# Altium footprint library SC70-6.PcbLib: 1 footprints
Each footprint in its own frame and in the unit in brackets; x right, y up, seen from the top. Pads: shape width x height; smd on the part's side, far side on the other; paste and mask are expansions set on the pad; w line width, h text height; cw(c..) or ccw(c..) is an arc to the next point about the centre after c.
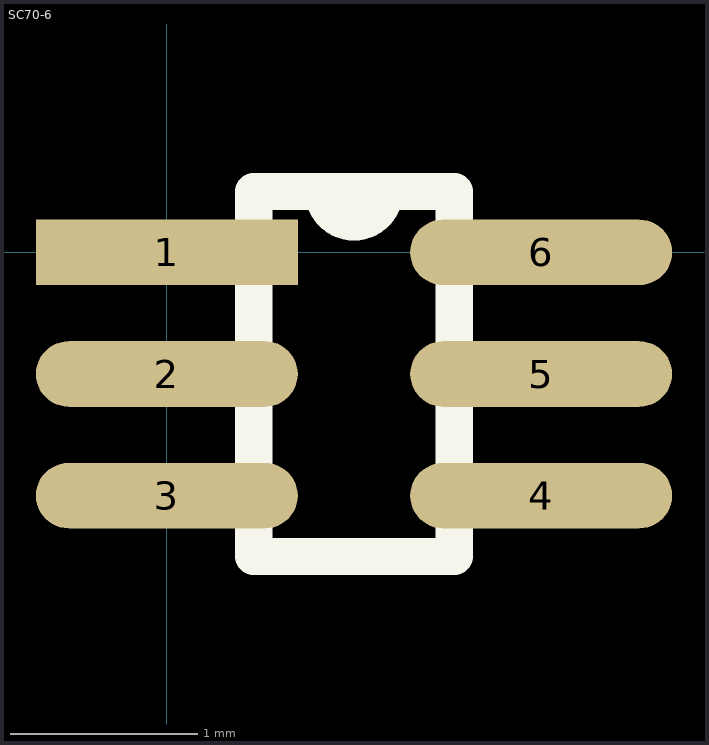
[diagram p0: the footprint, top view; thin cyan lines are the x and y axes]

## SC70-6 [mm]
pads (6):
  rect 1.4x0.35 smd: 1(0,0)
  oval 1.4x0.35 smd: 2(0,-0.65) 3(0,-1.3) 4(2,-1.3) 5(2,-0.65) 6(2,0)
Top Overlay:
  lines w0.2: 0.465,-1.625 0.465,0.325 1.162,0.325 cw(c1,0.325) 0.838,0.325 1.535,0.325 1.535,-1.625 0.465,-1.625